# Altium footprint library HTL-part-2021_04.pcblib: 93 footprints (part 1 of 6)
Each footprint in its own frame and in the unit in brackets; x right, y up, seen from the top. Pads: shape width x height; smd on the part's side, far side on the other; paste and mask are expansions set on the pad; w line width, h text height; cw(c..) or ccw(c..) is an arc to the next point about the centre after c.
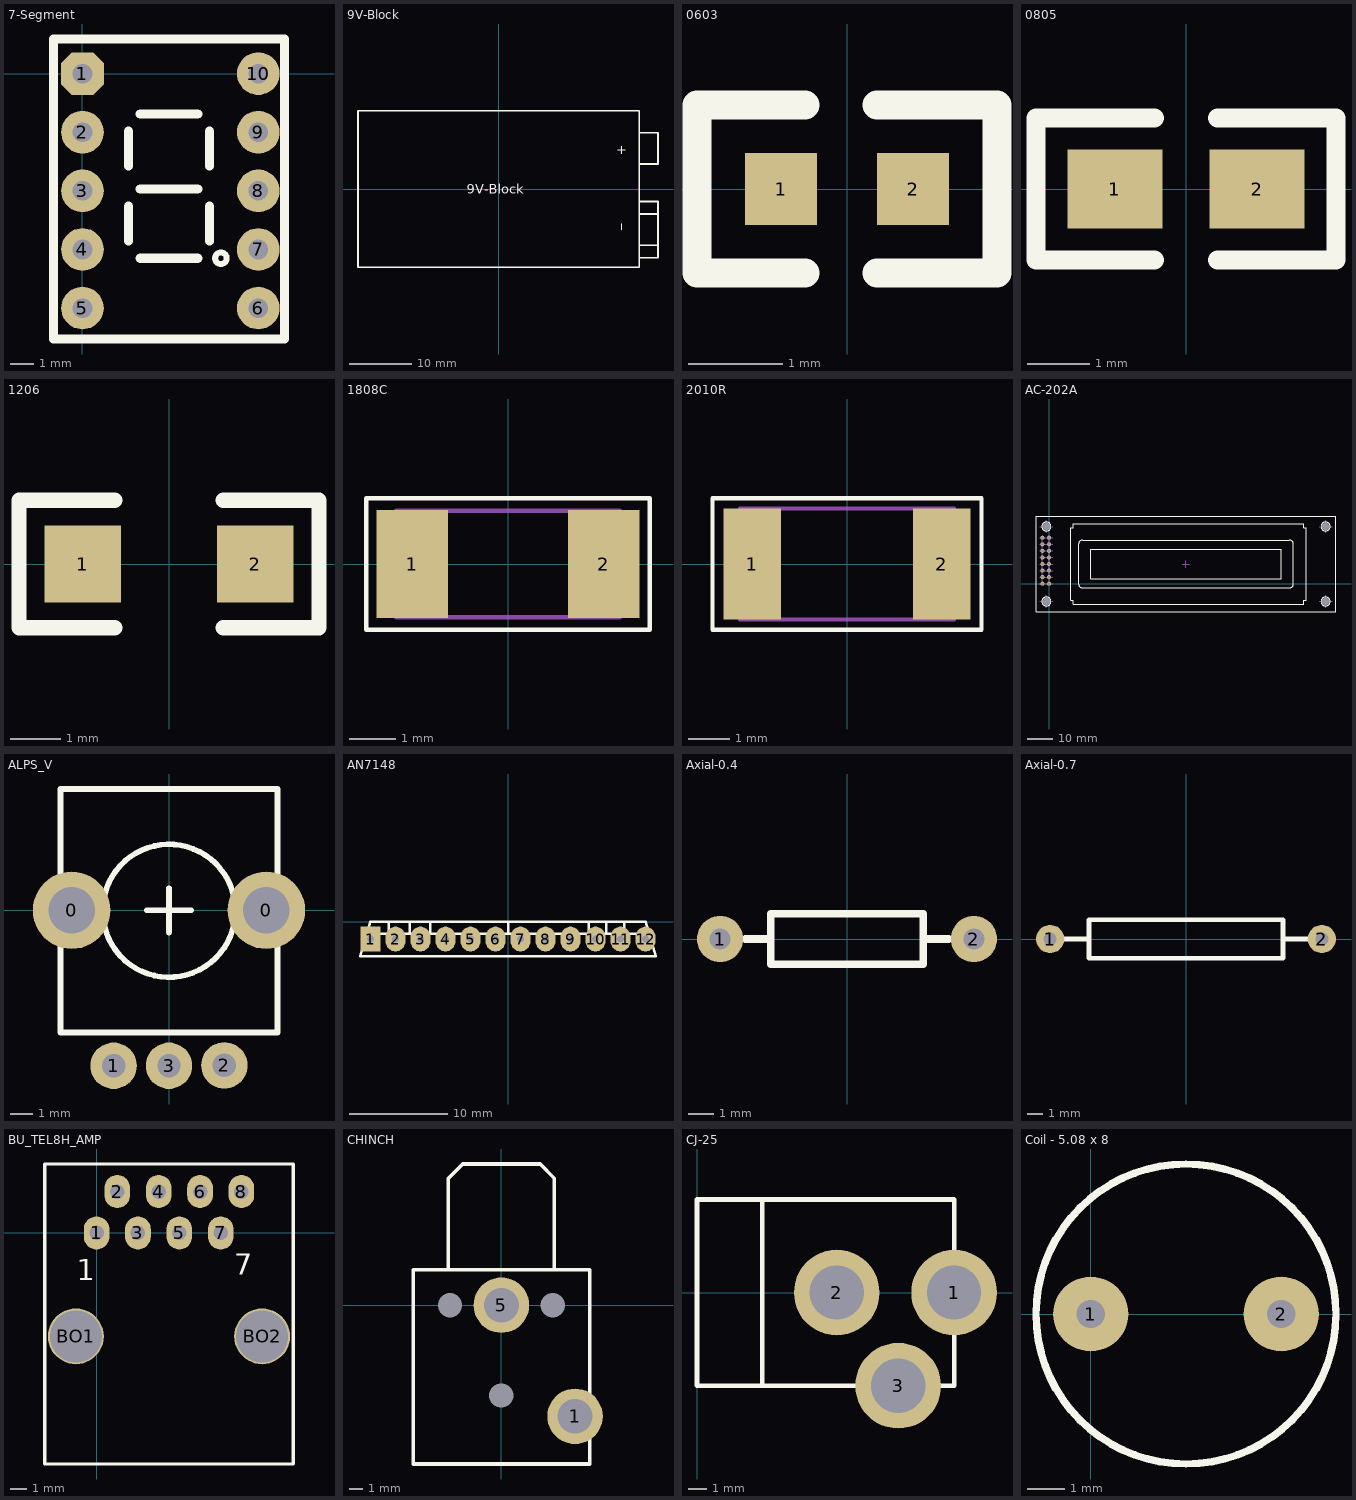
[diagram p0: the footprints below, top view; thin cyan lines are the x and y axes]

## 7-Segment [mm]
pads (10):
  oct 1.85x1.85 hole 0.85: 1(0,0)
  round 1.85 hole 0.85: 2(0,-2.54) 3(0,-5.08) 4(0,-7.62) 5(0,-10.16) 6(7.62,-10.16) 7(7.62,-7.62) 8(7.62,-5.08) 9(7.62,-2.54) 10(7.62,0)
Top Overlay:
  circle w0.254: c6,-8 r0.25
  lines w0.4: 2,-7.25 2,-5.75 ; 2,-4 2,-2.5 ; 2.5,-8 5,-8 ; 2.5,-5 5,-5 ; 2.5,-1.75 5,-1.75 ; 5.5,-7.25 5.5,-5.75 ; 5.5,-4 5.5,-2.5 ; -1.25,-11.5 8.75,-11.5 8.75,1.5 -1.25,1.5 -1.25,-11.5

## 9V-Block [mm]
height 17
Top Overlay:
  lines w0.254: 22.51,-10.99 25.51,-10.99 25.51,-1.99 22.51,-1.99 ; 22.51,-8.99 25.51,-8.99 ; 22.51,-3.99 25.51,-3.99 ; 22.51,4.01 25.51,4.01 25.51,9.01 22.51,9.01 ; -22.49,-12.49 22.51,-12.49 22.51,12.51 -22.49,12.51 -22.49,-12.49
  text "9V-Block" at -5.08,-0.762 h1.52
  text "+" at 18.796,5.588 h1.52
  text "_" at 19.304,-6.604 h1.52

## 0603 [mil]
pads (2):
  rect 30x30 smd: 1(-27.5,0) 2(27.5,0)
Top Overlay:
  lines w12: -17.5,-35 -62.5,-35 -62.5,35 -17.5,35 ; 12.5,-35 62.5,-35 62.5,35 12.5,35

## 0805 [mil]
pads (2):
  rect 60x50 smd: 1(-45,0) 2(45,0)
Top Overlay:
  lines w12: -20,-45 -95,-45 -95,45 -20,45 ; 20,-45 95,-45 95,45 20,45

## 1206 [mil]
pads (2):
  rect 60x60 smd: 1(-67.5,0) 2(67.5,0)
Top Overlay:
  lines w12: -42.5,-50 -117.5,-50 -117.5,50 -42.5,50 ; 42.5,-50 117.5,-50 117.5,50 42.5,50

## 1808C [mm] "Chip Capacitor, 2-Leads, Body 4,5x2,0mm, IPC Medium Density"
height 2
pads (2):
  rect 1.55x2.35 smd: 1(-2.075,0) 2(2.075,0)
Top Overlay:
  lines w0.1: -3.075,-1.425 -3.075,1.425 3.075,1.425 3.075,-1.425 -3.075,-1.425
Mechanical 13:
  lines w0.1: -2.425,-1.15 -2.425,1.15 2.425,1.15 2.425,-1.15 -2.425,-1.15
3D body: height 2, standoff 0, extent -2.425,-1.15 2.425,1.15

## 2010R [mm] "Chip Resistor, 2-Leads, Body 5.0x2.5mm, IPC Medium Density"
height 0.7
pads (2):
  rect 1.4x2.7 smd: 1(-2.3,0) 2(2.3,0)
Top Overlay:
  lines w0.1: -3.275,-1.6 -3.275,1.6 3.275,1.6 3.275,-1.6 -3.275,-1.6
Mechanical 13:
  lines w0.1: -2.6,-1.35 -2.6,1.35 2.6,1.35 2.6,-1.35 -2.6,-1.35
3D body: height 0.7, standoff 0, extent -2.6,-1.35 2.6,1.35

## AC-202A [mm]
pads (20):
  round 0 hole 3.15: 0(-1.041,-6.883) 0(-1.041,22.123) 0(106.959,-6.883) 0(106.959,22.123)
  round 1.55 hole 1: 1(0,0) 2(-2.54,0) 3(0,2.54) 4(-2.54,2.54) 5(0,5.08) 6(-2.54,5.08) 7(0,7.62) 8(-2.54,7.62) 9(0,10.16) 10(-2.54,10.16) 11(0,12.7) 12(-2.54,12.7) 13(0,15.24) 14(-2.54,15.24) 15(0,17.78) 16(-2.54,17.78)
Top Overlay:
  circle w0.051: c-1.031,-6.887 r1.75
  circle w0.051: c106.969,-6.887 r1.75
  circle w0.051: c106.969,22.113 r1.75
  circle w0.051: c-1.031,22.113 r1.75
  lines w0.254: -5.031,-10.887 -5.031,26.113 ; -5.031,-10.887 -5.031,26.113 ; -5.031,-10.887 110.969,-10.887 ; -5.031,26.113 110.969,26.113 ; -5.031,26.113 110.969,26.113 ; 110.969,-10.887 110.969,26.113 ; 110.969,-10.887 110.969,26.113 ; 8.369,-6.487 9.369,-6.487 9.369,-7.987 98.569,-7.987 98.569,-6.487 99.569,-6.487 99.569,21.713 98.569,21.713 98.569,23.213 9.369,23.213 9.369,21.713 8.369,21.713 8.369,-6.487 ; 11.469,-0.137 ccw(c12.969,-0.137) 12.969,-1.637 92.969,-1.637 ccw(c92.969,-0.137) 94.469,-0.137 94.469,15.363 ccw(c92.969,15.363) 92.969,16.863 12.969,16.863 ccw(c12.969,15.363) 11.469,15.363 11.469,-0.137 ; 16.219,1.863 16.219,13.363 89.719,13.363 89.719,1.863 16.219,1.863
Mechanical 1:
  circle w0.025: c110.969,26.113 r0.013
  circle w0.025: c110.969,-10.887 r0.013
  circle w0.025: c-5.031,-10.887 r0.013
  circle w0.025: c110.969,-10.887 r0.013
  lines w0.051: -3.531,-6.887 1.469,-6.887 ; -3.531,-0.007 1.469,-0.007 ; -3.531,2.533 1.469,2.533 ; -3.531,5.073 1.469,5.073 ; -3.531,7.613 1.469,7.613 ; -3.531,10.153 1.469,10.153 ; -3.531,12.693 1.469,12.693 ; -3.531,15.233 1.469,15.233 ; -3.531,17.773 1.469,17.773 ; -3.531,22.113 1.469,22.113 ; -2.531,-0.007 -2.531,17.773 ; -1.031,-9.387 -1.031,-4.387 ; -1.031,19.613 -1.031,24.613 ; 0.009,-0.007 0.009,17.773 ; 51.537,7.544 54.305,7.518 ; 52.959,6.172 52.959,8.941 ; 104.469,-6.887 109.469,-6.887 ; 104.469,22.113 109.469,22.113 ; 106.969,-9.387 106.969,-4.387 ; 106.969,19.613 106.969,24.613

## ALPS_V [mm]
height 15
pads (5):
  round 3.5 hole 2.1: 0(-4.4,0) 0(4.4,0)
  round 2.1 hole 1.05: 1(-2.5,-7.02) 2(2.5,-7) 3(0,-7.02)
Top Overlay:
  circle w0.254: c0,-0.02 r3
  lines w0.254: -1,0 1,0 ; 0,-1 0,0 0,1 ; -4.9,-5.52 -4.9,5.48 4.9,5.48 4.9,-5.52 -4.9,-5.52

## AN7148 [mm]
pads (12):
  rect 2x2.54 hole 0.75: 1(-13.97,-1.753)
  oval 2x2.54 hole 0.75: 2(-11.43,-1.753) 3(-8.89,-1.753) 4(-6.35,-1.753) 5(-3.81,-1.753) 6(-1.27,-1.753) 7(1.27,-1.753) 8(3.81,-1.753) 9(6.35,-1.753) 10(8.89,-1.753) 11(11.43,-1.753) 12(13.97,-1.753)
Top Overlay:
  lines w0.254: -14.343,-1.2 14.343,-1.2 ; -12.1,-1.2 -12.1,0 ; -10,-1.2 -10,0 ; -7.9,-1.2 -7.9,0 ; 0,-1.2 0,0 ; 8.2,-1.2 8.2,0 ; 10,-1.2 10,0 ; 11.8,-1.2 11.8,0 ; -15,-3.5 15,-3.5 14,0 -14,0 -15,-3.5

## Axial-0.4 [mm]
pads (2):
  round 1.85 hole 0.85: 1(-5.08,0) 2(5.08,0)
Top Overlay:
  lines w0.305: -4.064,0 -3.048,0 ; 3.048,0 4.064,0 ; -3.048,-1.016 3.048,-1.016 3.048,1.016 -3.048,1.016 -3.048,-1.016

## Axial-0.7 [mm]
pads (2):
  round 1.85 hole 0.85: 1(-8.89,0) 2(8.89,0)
Top Overlay:
  lines w0.305: -8.89,0 -6.35,0 ; 6.35,0 8.89,0 ; -6.35,-1.27 6.35,-1.27 6.35,1.27 -6.35,1.27 -6.35,-1.27

## BU_TEL8H_AMP [mil]
pads (10):
  oval 62x80 hole 35: 1(0,0) 2(50,100) 3(100,0) 4(150,100) 5(200,0) 6(250,100) 7(300,0) 8(350,100)
  round 135 hole 125: BO1(-50,-250) BO2(400,-250)
Bottom Layer:
  text "1" at -140,-15 h40
Top Overlay:
  lines w8: -125,-558.33 -125,166.67 475,166.67 475,-558.33 -125,-558.33
  text "1" at -47.84,-114.13 h50
  text "7" at 332.45,-101.06 h50

## CHINCH [mm] "RCA-Buchse bestellbar bei RS  Nr. 913-1021"
pads (5):
  round 4 / inner round 1.27 / far side round 4 hole 2.5: 1(5.3,-8) 5(0,0)
  round 0.5 hole 1.75: 2(3.7,0) 3(-3.7,0) 4(0,-6.5)
Top Overlay:
  lines w0.254: -3.81,2.54 -3.81,9.144 -2.794,10.16 2.794,10.16 3.81,9.144 3.81,2.54 ; -6.35,-11.43 -6.35,2.54 -5.08,2.54 5.08,2.54 6.35,2.54 6.35,-11.43 -6.35,-11.43

## CJ-25 [mm] "DC-Buchse 2.1mm Bestellbar bei RS Nr. 448-382"
height 1.7
pads (3):
  round 4.6 hole 2.9: 1(13.8,0) 2(7.5,0) 3(10.8,-5)
Top Overlay:
  lines w0.254: 3.5,-5 3.5,5 ; 0,-5 13.8,-5 13.8,5 0,5 0,-5

## Coil - 5.08 x 8 [mm]
pads (2):
  round 2 hole 0.75: 1(0,0) 2(5.08,0)
Top Overlay:
  circle w0.2: c2.54,0 r4